# Altium schematic symbol library IR Discrete MOSFET - Low Power.SchLib: 3 symbols
Pins are listed as number, name and electrical type; pins without a type are passive.

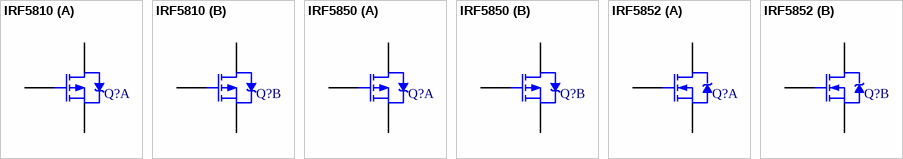
[diagram p0: symbols IRF5810 to IRF5852]

## IRF5810
designator Q?
HEXFET Power MOSFET; Published: 17-Sep-2003; DatasheetVersion: 6-Jun-2001; PackageVersion: Jul-2002; PackageReference: TSOP-6; Publisher: Altium Limited; PackageDescription: SOT-457/SC-74; 6 Leads; Body 3.1 x 2.9 mm, inc. leads (LxW max); Code_JEDEC: MO-193AA; ComponentLink1Description: Manufacturer Link; ComponentLink1URL: http://www.irf.com/; ComponentLink2Description: Datasheet; ComponentLink2URL: http://www.irf.com/product-info/datasheets/data/irf5810.pdf
footprint TSOP-6 (SOT-457/SC-74; 6 Leads; Body 3.1 x 2.9 mm, inc. leads (LxW max))
simulation model IRF5810 (SUBCKT)
part A pins: 1 G, 5 S, 6 D
part B pins: 2 S, 3 G, 4 D

## IRF5850
designator Q?
HEXFET Power MOSFET; Published: 17-Sep-2003; DatasheetVersion: 25-Jul-2000; PackageVersion: Jul-2002; PackageReference: TSOP-6; Publisher: Altium Limited; PackageDescription: SOT-457/SC-74; 6 Leads; Body 3.1 x 2.9 mm, inc. leads (LxW max); Code_JEDEC: MO-193AA; ComponentLink1Description: Manufacturer Link; ComponentLink1URL: http://www.irf.com/; ComponentLink2Description: Datasheet; ComponentLink2URL: http://www.irf.com/product-info/datasheets/data/irf5850.pdf
footprint TSOP-6 (SOT-457/SC-74; 6 Leads; Body 3.1 x 2.9 mm, inc. leads (LxW max))
simulation model IRF5850 (SUBCKT)
part A pins: 1 G, 5 S, 6 D
part B pins: 2 S, 3 G, 4 D

## IRF5852
designator Q?
HEXFET Power MOSFET; Published: 17-Sep-2003; DatasheetVersion: 1-Mar-2001; PackageVersion: Jul-2002; PackageReference: TSOP-6; Publisher: Altium Limited; PackageDescription: SOT-457/SC-74; 6 Leads; Body 3.1 x 2.9 mm, inc. leads (LxW max); Code_JEDEC: MO-193AA; ComponentLink1Description: Manufacturer Link; ComponentLink1URL: http://www.irf.com/; ComponentLink2Description: Datasheet; ComponentLink2URL: http://www.irf.com/product-info/datasheets/data/irf5852.pdf
footprint TSOP-6 (SOT-457/SC-74; 6 Leads; Body 3.1 x 2.9 mm, inc. leads (LxW max))
simulation model IRF5852 (SUBCKT)
part A pins: 1 G, 5 S, 6 D
part B pins: 2 S, 3 G, 4 D